# Altium footprint library decawave-lib.PcbLib: 16 footprints
Each footprint in its own frame and in the unit in brackets; x right, y up, seen from the top. Pads: shape width x height; smd on the part's side, far side on the other; paste and mask are expansions set on the pad; w line width, h text height; cw(c..) or ccw(c..) is an arc to the next point about the centre after c.
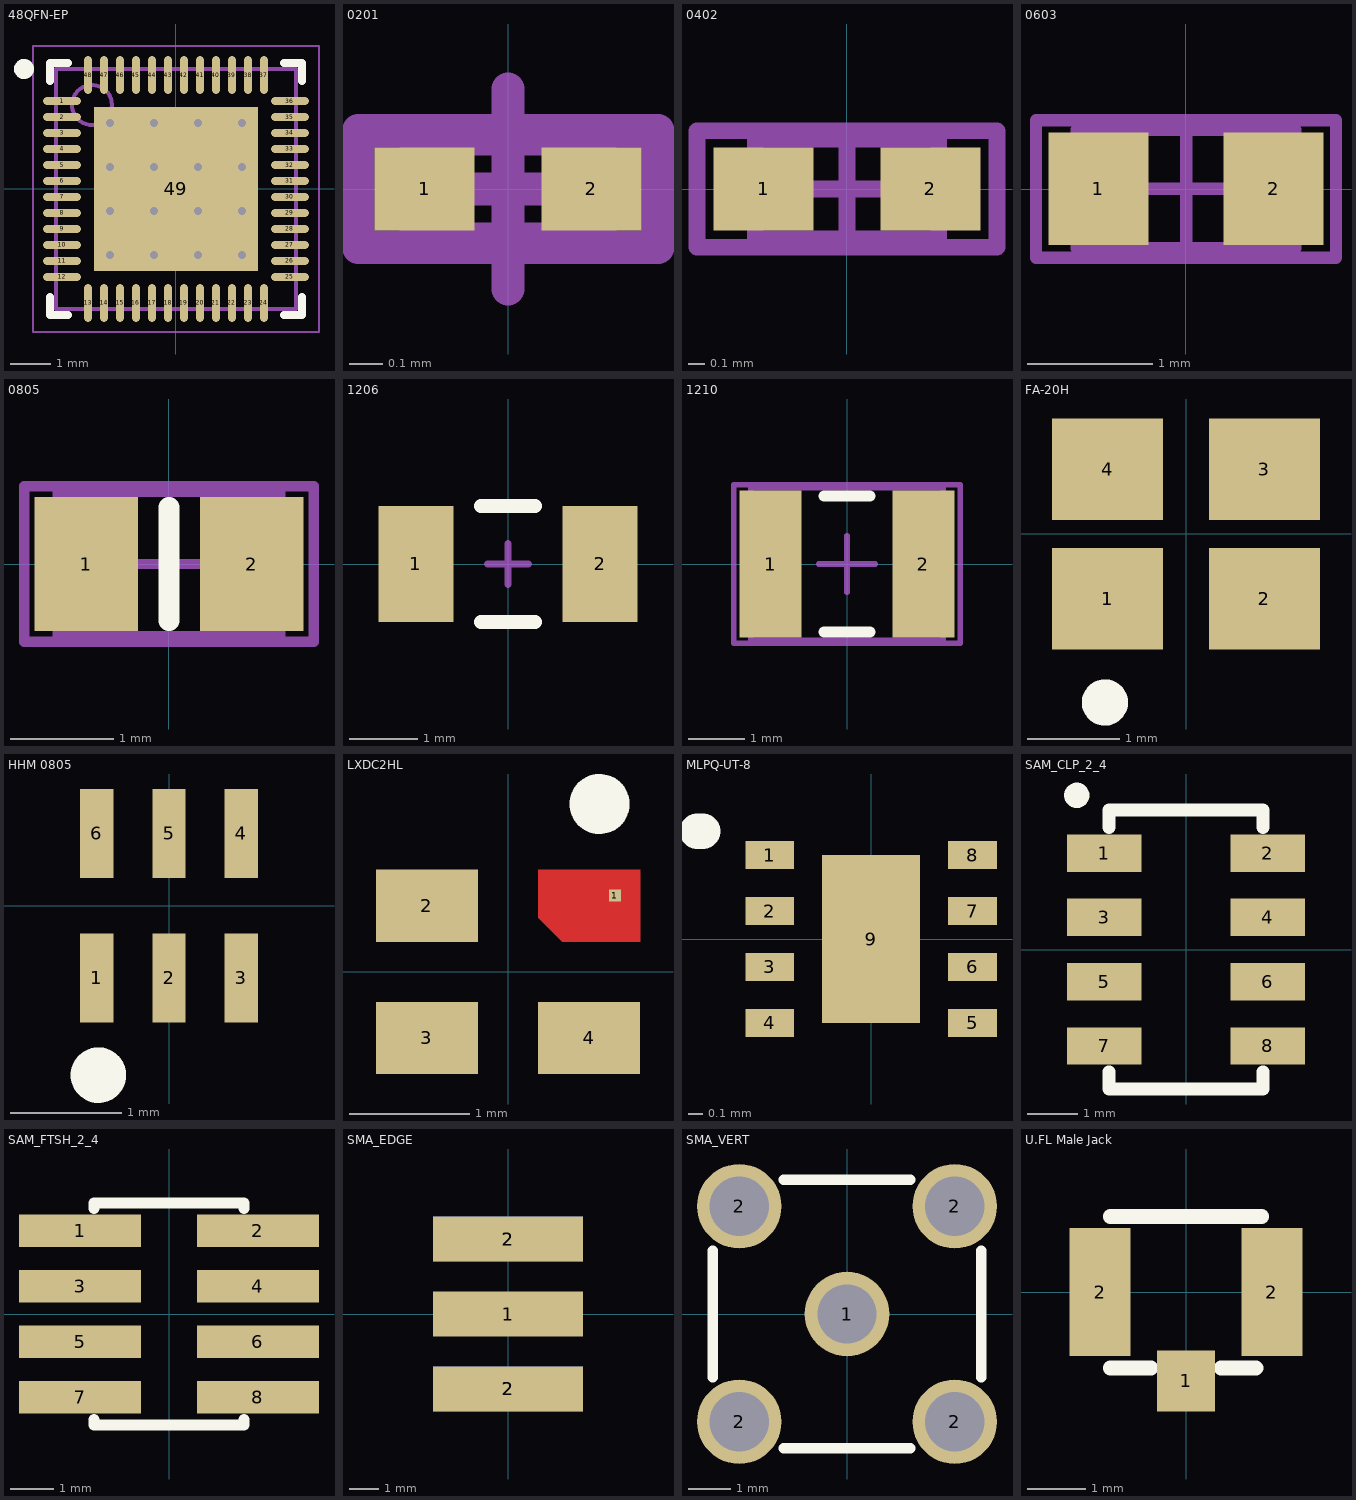
[diagram p0: the footprints below, top view; thin cyan lines are the x and y axes]

## 48QFN-EP [mm] "QFN, 48-Leads, Body 6.00x6.00mm, Pitch 0.40mm, Thermal Pad 4.10x4.10mm, IPC Medium Density"
height 0.9
pads (49):
  oval 0.95x0.2 smd: 1(-2.85,2.2) 2(-2.85,1.8) 3(-2.85,1.4) 4(-2.85,1) 5(-2.85,0.6) 6(-2.85,0.2) 7(-2.85,-0.2) 8(-2.85,-0.6) 9(-2.85,-1) 10(-2.85,-1.4) 11(-2.85,-1.8) 12(-2.85,-2.2) 25(2.85,-2.2) 26(2.85,-1.8) 27(2.85,-1.4) 28(2.85,-1) 29(2.85,-0.6) 30(2.85,-0.2) 31(2.85,0.2) 32(2.85,0.6) 33(2.85,1) 34(2.85,1.4) 35(2.85,1.8) 36(2.85,2.2)
  oval 0.2x0.95 smd: 13(-2.2,-2.85) 14(-1.8,-2.85) 15(-1.4,-2.85) 16(-1,-2.85) 17(-0.6,-2.85) 18(-0.2,-2.85) 19(0.2,-2.85) 20(0.6,-2.85) 21(1,-2.85) 22(1.4,-2.85) 23(1.8,-2.85) 24(2.2,-2.85) 37(2.2,2.85) 38(1.8,2.85) 39(1.4,2.85) 40(1,2.85) 41(0.6,2.85) 42(0.2,2.85) 43(-0.2,2.85) 44(-0.6,2.85) 45(-1,2.85) 46(-1.4,2.85) 47(-1.8,2.85) 48(-2.2,2.85)
  rect 4.1x4.1 smd: 49(0,0)
via 1.65,-1.65 diameter 0.508 hole 0.203
via 0.55,-1.65 diameter 0.508 hole 0.203
via -0.55,-1.65 diameter 0.508 hole 0.203
via -1.65,-1.65 diameter 0.508 hole 0.203
via 1.65,-0.55 diameter 0.508 hole 0.203
via 0.55,-0.55 diameter 0.508 hole 0.203
via -0.55,-0.55 diameter 0.508 hole 0.203
via -1.65,-0.55 diameter 0.508 hole 0.203
via 1.65,0.55 diameter 0.508 hole 0.203
via 0.55,0.55 diameter 0.508 hole 0.203
via -0.55,0.55 diameter 0.508 hole 0.203
via -1.65,0.55 diameter 0.508 hole 0.203
via 1.65,1.65 diameter 0.508 hole 0.203
via 0.55,1.65 diameter 0.508 hole 0.203
via -0.55,1.65 diameter 0.508 hole 0.203
via -1.65,1.65 diameter 0.508 hole 0.203
Top Overlay:
  circle w0.25: c-3.8,3 r0.125
  lines w0.2: -3.15,-2.7 -3.15,-3.15 -2.7,-3.15 ; -3.15,2.7 -3.15,3.15 -2.7,3.15 ; 2.7,-3.15 3.15,-3.15 3.15,-2.7 ; 2.7,3.15 3.15,3.15 3.15,2.7
Mechanical 13:
  circle w0.1: c-2.1,2.1 r0.5
  lines w0.1: -3,-3 3,-3 3,3 -3,3 -3,-3
Mechanical 15:
  lines w0.05: -3.575,-3.575 3.575,-3.575 3.575,3.575 -3.575,3.575 -3.575,-3.575
  lines w0.1: -0.5,0 0.5,0 ; 0,-0.5 0,0.5
3D body: height 0.9, standoff 0, extent -3,-3 3,3

## 0201 [mm] "Chip Capacitor, Body 1.0x0.5mm, IPC High Density"
height 1.3
pads (2):
  rect 0.3x0.25 smd: 1(-0.25,0) 2(0.25,0)
Mechanical 13:
  lines w0.1: -0.275,-0.15 -0.275,0.15 0.275,0.15 0.275,-0.15 -0.275,-0.15
Mechanical 15:
  lines w0.1: 0,-0.3 0,0.3 ; 0,-0.15 0,0.15 ; -0.45,-0.175 -0.45,0.175 0.45,0.175 0.45,-0.175 -0.45,-0.175 ; -0.3,0 0.3,0 -0.3,0
3D body: height 0.3, standoff 0, extent -0.254,-0.127 0.254,0.127

## 0402 [mm] "Chip Capacitor, Body 1.0x0.5mm, IPC High Density"
height 1.3
pads (2):
  rect 0.6x0.5 smd: 1(-0.5,0) 2(0.5,0)
Mechanical 13:
  lines w0.1: -0.55,-0.3 0.55,-0.3 0.55,0.3 -0.55,0.3 -0.55,-0.3
Mechanical 15:
  lines w0.1: -0.3,0 0.3,0 ; 0,-0.3 0,0.3 ; -0.9,-0.35 0.9,-0.35 0.9,0.35 -0.9,0.35 -0.9,-0.35
3D body: height 0.6, standoff 0, extent -0.55,-0.3 0.55,0.3

## 0603 [mm] "Chip Capacitor, Body 1.6x0.8mm, IPC High Density"
height 1.3
pads (2):
  rect 0.8x0.9 smd: 1(-0.7,0) 2(0.7,0)
Mechanical 13:
  lines w0.1: -0.875,-0.475 -0.875,0.475 0.875,0.475 0.875,-0.475 -0.875,-0.475
Mechanical 15:
  lines w0.1: -0.475,0 0.475,0 ; 0,-0.475 0,0.475 ; -1.2,-0.55 -1.2,0.55 1.2,0.55 1.2,-0.55 -1.2,-0.55
3D body: height 0.9, standoff 0, extent -0.875,-0.475 0.875,0.475

## 0805 [mm] "Chip Resistor, Body 2.0x1.2mm, IPC High Density"
height 0.7
pads (2):
  rect 1x1.3 smd: 1(-0.8,0) 2(0.8,0)
Top Overlay:
  lines w0.2: 0,-0.55 0,0.55
Mechanical 13:
  lines w0.1: -1.075,-0.7 1.075,-0.7 1.075,0.7 -1.075,0.7 -1.075,-0.7
Mechanical 15:
  lines w0.1: -0.5,0 0.5,0 ; 0,-0.5 0,0.5 ; -1.4,-0.75 1.4,-0.75 1.4,0.75 -1.4,0.75 -1.4,-0.75
3D body: height 0.7, standoff 0, extent -1.075,-0.7 1.075,0.7

## 1206 [mm] "Chip Capacitor, Body 3.2x2.5mm, IPC High Density"
height 1.3
pads (2):
  rect 1.1x1.7 smd: 1(-1.35,0) 2(1.35,0)
Top Overlay:
  lines w0.2: -0.4,-0.85 0.4,-0.85 ; -0.4,0.85 0.4,0.85
Mechanical 15:
  lines w0.1: -0.3,0 0.3,0 ; 0,-0.3 0,0.3

## 1210 [mm] "Chip Capacitor, Body 3.2x2.5mm, IPC High Density"
height 1.3
pads (2):
  rect 1.1x2.6 smd: 1(-1.35,0) 2(1.35,0)
Top Overlay:
  lines w0.2: -0.4,-1.2 0.4,-1.2 ; -0.4,1.2 0.4,1.2
Mechanical 13:
  lines w0.1: -1.7,-1.35 1.7,-1.35 1.7,1.35 -1.7,1.35 -1.7,-1.35
Mechanical 15:
  lines w0.1: -0.5,0 0.5,0 ; 0,-0.5 0,0.5 ; -2,-1.4 2,-1.4 2,1.4 -2,1.4 -2,-1.4
3D body: height 1.3, standoff 0, extent -1.7,-1.35 1.7,1.35

## FA-20H [mm]
pads (4):
  rect 1.2x1.1 smd: 1(-0.85,-0.7) 2(0.85,-0.7) 3(0.85,0.7) 4(-0.85,0.7)
Top Overlay:
  circle w0.25: c-0.879,-1.826 r0.125
3D body: height 0.55, standoff 0, extent -1.25,-1 1.25,1

## HHM 0805 [mm]
pads (6):
  rect 0.3x0.8 smd: 1(-0.65,-0.65) 2(0,-0.65) 3(0.65,-0.65) 4(0.65,0.65) 5(0,0.65) 6(-0.65,0.65)
Top Overlay:
  circle w0.25: c-0.635,-1.524 r0.125

## LXDC2HL [mm]
pads (4):
  rect 0.1x0.1 smd: 1(0.889,0.635)
  rect 0.85x0.6 smd: 2(-0.675,0.55) 3(-0.675,-0.55) 4(0.675,-0.55)
Top Layer:
  region: 0.25,0.85 0.25,0.45 0.45,0.25 1.1,0.25 1.1,0.85
Top Overlay:
  circle w0.25: c0.762,1.397 r0.125

## MLPQ-UT-8 [mm]
pads (9):
  rect 0.35x0.2 smd: 1(-0.725,0.6) 2(-0.725,0.2) 3(-0.725,-0.2) 4(-0.725,-0.6) 5(0.725,-0.6) 6(0.725,-0.2) 7(0.725,0.2) 8(0.725,0.6)
  rect 0.7x1.2 smd: 9(0,0)
Top Overlay:
  lines w0.254: -1.245,0.77 -1.205,0.77
3D body: height 0.4, standoff 0.02, extent -0.75,-0.75 0.75,0.75

## SAM_CLP_2_4 [mm]
pads (8):
  rect 1.47x0.74 smd: 1(-1.615,1.905) 2(1.615,1.905) 3(-1.615,0.635) 4(1.615,0.635) 5(-1.615,-0.635) 6(1.615,-0.635) 7(-1.615,-1.905) 8(1.615,-1.905)
Top Overlay:
  circle w0.25: c-2.157,3.048 r0.125
  lines w0.254: -1.525,-2.413 -1.525,-2.755 1.525,-2.755 1.525,-2.413 ; -1.525,2.413 -1.525,2.755 1.525,2.755 1.525,2.413
3D body: height 2.29, standoff 0.25, extent -1.525,-2.755 1.525,2.755

## SAM_FTSH_2_4 [mm]
pads (8):
  rect 2.79x0.74 smd: 1(-2.035,1.905) 2(2.035,1.905) 3(-2.035,0.635) 4(2.035,0.635) 5(-2.035,-0.635) 6(2.035,-0.635) 7(-2.035,-1.905) 8(2.035,-1.905)
Top Overlay:
  lines w0.254: -1.715,-2.413 -1.715,-2.54 1.715,-2.54 1.715,-2.413 ; -1.715,2.413 -1.715,2.54 1.715,2.54 1.715,2.413
3D body: height 2.92, standoff 0.25, extent -1.715,-2.54 1.715,2.54

## SMA_EDGE [mm]
pads (5):
  rect 5.08x1.52 smd: 1(0,0) 2(0,-2.54) 2(0,2.54)
  rect 5.08x1.52 smd far side: 2(0,-2.54) 2(0,2.54)

## SMA_VERT [mm]
pads (5):
  round 2 hole 1.4: 1(0,0) 2(-2.55,-2.55) 2(-2.55,2.55) 2(2.55,-2.55) 2(2.55,2.55)
Top Overlay:
  lines w0.254: -3.175,-1.5 -3.175,1.5 ; -1.5,-3.175 1.5,-3.175 ; -1.5,3.175 1.5,3.175 ; 3.175,-1.5 3.175,1.5

## U.FL Male Jack [mm]
pads (3):
  rect 1x1.05 smd: 1(0,-1.525)
  rect 1.05x2.2 smd: 2(-1.475,0) 2(1.475,0)
Top Overlay:
  lines w0.254: -1.3,-1.3 -0.6,-1.3 ; -1.3,1.3 1.3,1.3 ; 0.6,-1.3 1.2,-1.3